# Altium footprint library CCZynq.PcbLib: 36 footprints (part 1 of 3)
Each footprint in its own frame and in the unit in brackets; x right, y up, seen from the top. Pads: shape width x height; smd on the part's side, far side on the other; paste and mask are expansions set on the pad; w line width, h text height; cw(c..) or ccw(c..) is an arc to the next point about the centre after c.
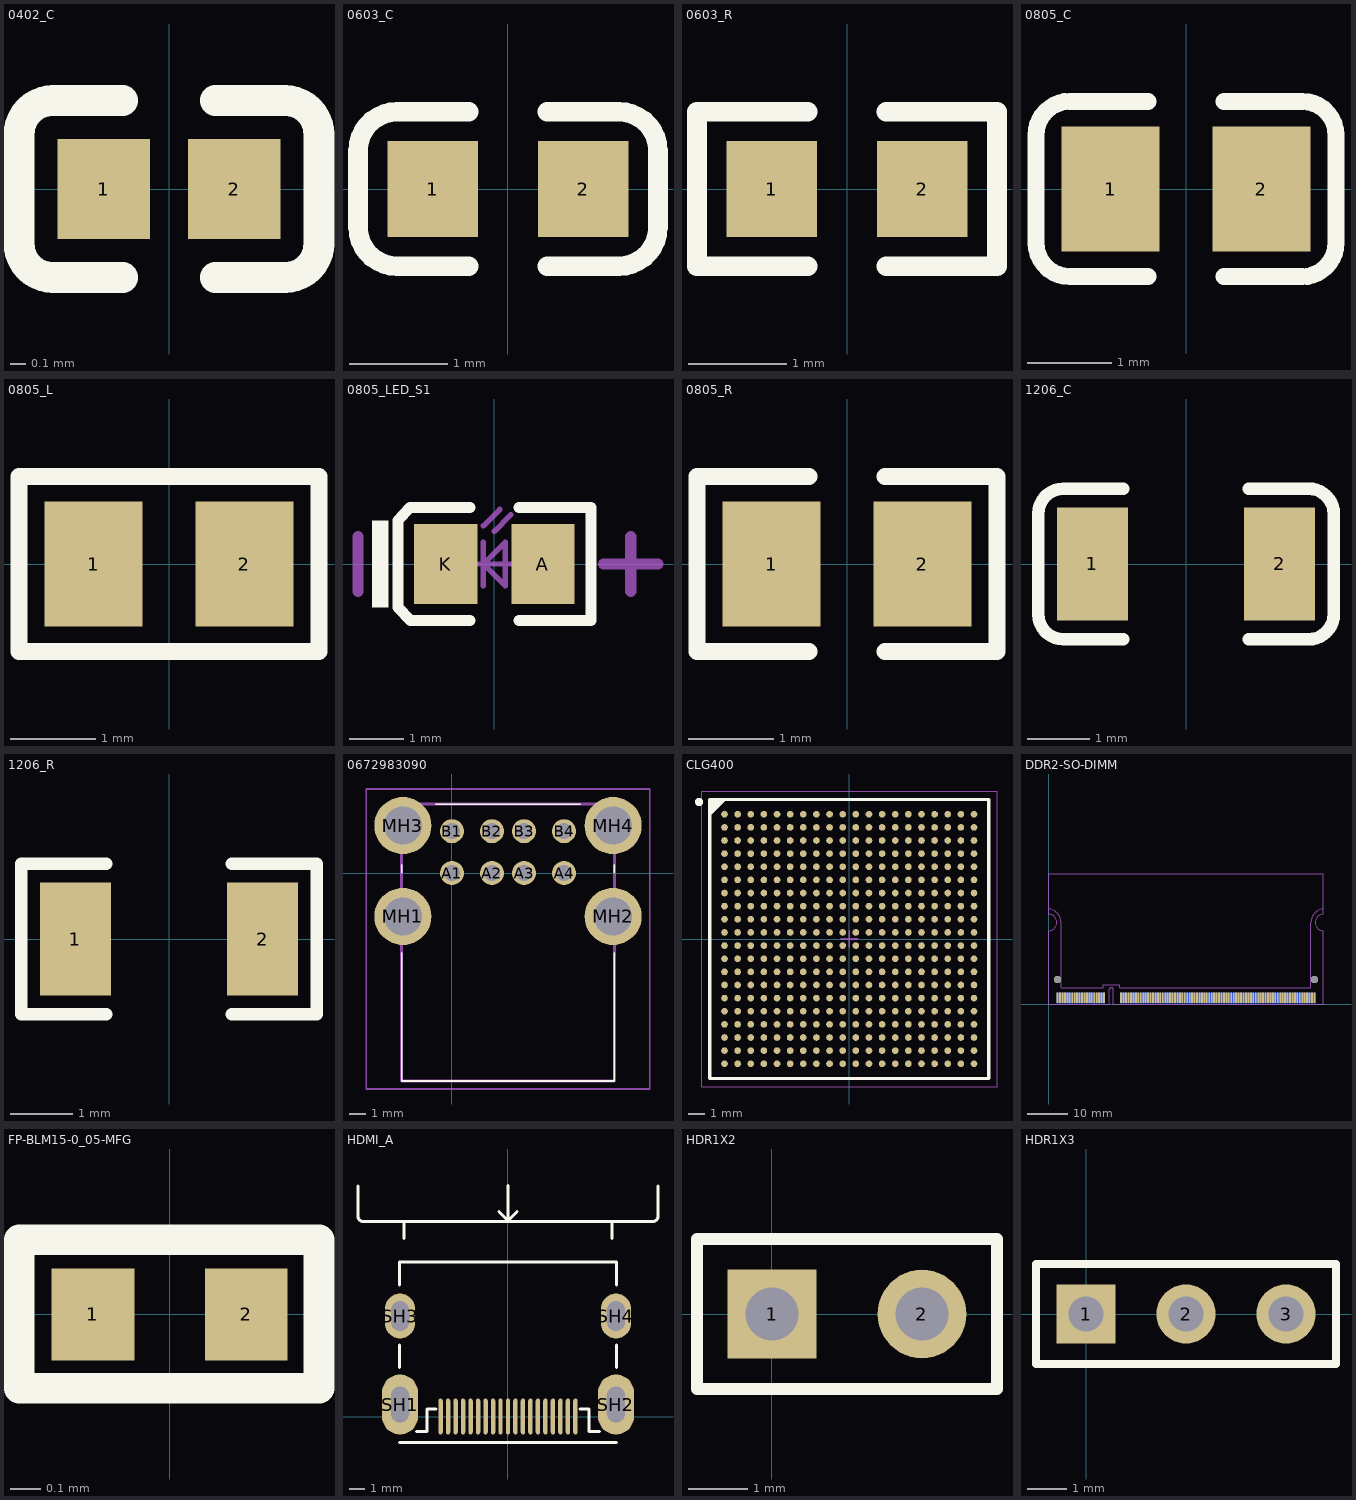
[diagram p0: the footprints below, top view; thin cyan lines are the x and y axes]

## 0402_C [mm]
pads (2):
  rect 0.6x0.65 smd mask+0.051: 1(-0.425,0) 2(0.425,0)
Top Overlay:
  lines w0.2: -0.755,-0.575 cw(c-0.755,-0.355) -0.975,-0.355 -0.975,0.355 cw(c-0.755,0.355) -0.755,0.575 ; -0.75,-0.575 -0.3,-0.575 ; -0.75,0.575 -0.3,0.575 ; 0.3,-0.575 0.75,-0.575 ; 0.3,0.575 0.75,0.575 ; 0.755,-0.575 ccw(c0.755,-0.355) 0.975,-0.355 0.975,0.355 ccw(c0.755,0.355) 0.755,0.575
3D body "0402 SMD Capacitor.step": height 0.2, standoff 0, extent -0.483,-0.3 0.517,0.3

## 0603_C [mm]
pads (2):
  rect 0.93x0.98 smd: 1(-0.77,0) 2(0.77,0)
Top Overlay:
  lines w0.2: -0.4,-0.79 -1.135,-0.79 cw(c-1.135,-0.39) -1.535,-0.39 -1.535,0.39 cw(c-1.135,0.39) -1.135,0.79 -0.4,0.79 ; 0.4,-0.79 1.135,-0.79 ccw(c1.135,-0.39) 1.535,-0.39 1.535,0.39 ccw(c1.135,0.39) 1.135,0.79 0.4,0.79
3D body "User Library-0603 SMD Capacitor.STEP": height 0.3, standoff 0, extent -0.8,-0.4 0.8,0.4

## 0603_R [mm]
pads (2):
  rect 0.93x0.98 smd: 1(-0.77,0) 2(0.77,0)
Top Overlay:
  lines w0.2: -0.4,-0.79 -1.535,-0.79 -1.535,0.79 -0.4,0.79 ; 0.4,-0.79 1.535,-0.79 1.535,0.79 0.4,0.79
3D body "User Library-RES_1609-0603.STEP": height 0.56, standoff 0, extent -0.85,-0.4 0.85,0.4

## 0805_C [mm]
pads (2):
  rect 1.16x1.47 smd: 1(-0.89,0) 2(0.89,0)
Top Overlay:
  lines w0.2: -0.45,-1.035 -1.37,-1.035 cw(c-1.37,-0.635) -1.77,-0.635 -1.77,0.635 cw(c-1.37,0.635) -1.37,1.035 -0.45,1.035 ; 0.45,-1.035 1.37,-1.035 ccw(c1.37,-0.635) 1.77,-0.635 1.77,0.635 ccw(c1.37,0.635) 1.37,1.035 0.45,1.035
3D body "User Library-0805 SMD Capacitor.STEP": height 0.77, standoff -0.01, extent -1,-0.625 1.001,0.625

## 0805_L [mm]
pads (2):
  rect 1.16x1.47 smd: 1(-0.89,0) 2(0.89,0)
Top Overlay:
  lines w0.2: -1.77,-1.035 -1.77,1.035 1.77,1.035 1.77,-1.035 -1.77,-1.035
3D body "L0805.STEP": height 0.6, standoff -0.02, extent -0.997,-0.638 1.003,0.637

## 0805_LED_S1 [mm]
pads (2):
  rect 1.16x1.47 smd: A(0.89,0) K(-0.89,0)
Top Overlay:
  rectangle: -2.245,-0.8 -1.945,0.8
  lines w0.2: -0.45,-1.035 -1.535,-1.035 -1.77,-0.8 -1.77,0.8 -1.55,1.035 -0.45,1.035 ; 0.45,-1.035 1.77,-1.035 1.77,1.035 0.45,1.035
Mechanical 13:
  lines w0.1: -0.4,0 0.4,0 ; -0.2,-0.4 -0.2,0.4 ; -0.2,0.7 0.1,1 ; 0,0.6 0.3,0.9 ; -0.2,0 0.2,0.4 0.2,-0.4 -0.2,0
Mechanical 15:
  lines w0.203: -2.5,-0.5 -2.5,0.5 ; 2,0 3,0 ; 2.5,-0.5 2.5,0.5
3D body "User Library-led_0805.step": height 1.1, standoff 0, extent -1.01,-0.625 1.01,0.625

## 0805_R [mm]
pads (2):
  rect 1.16x1.47 smd: 1(-0.89,0) 2(0.89,0)
Top Overlay:
  lines w0.2: -0.45,-1.035 -1.77,-1.035 -1.77,1.035 -0.45,1.035 ; 0.45,-1.035 1.77,-1.035 1.77,1.035 0.45,1.035
3D body "User Library-R_0805.STEP": height 0.49, standoff -0.01, extent -0.997,-0.625 1.003,0.625

## 1206_C [mm]
pads (2):
  rect 1.13x1.8 smd: 1(-1.49,0) 2(1.49,0)
Top Overlay:
  lines w0.2: -1,-1.2 -1.955,-1.2 cw(c-1.955,-0.8) -2.355,-0.8 -2.355,0.8 cw(c-1.955,0.8) -1.955,1.2 -1,1.2 ; 1,-1.2 1.955,-1.2 ccw(c1.955,-0.8) 2.355,-0.8 2.355,0.8 ccw(c1.955,0.8) 1.955,1.2 1,1.2
3D body "C1206.STEP": height 1, standoff 0, extent -1.602,-0.813 1.598,0.787

## 1206_R [mm]
pads (2):
  rect 1.13x1.8 smd: 1(-1.49,0) 2(1.49,0)
Top Overlay:
  lines w0.2: -1,-1.2 -2.355,-1.2 -2.355,1.2 -1,1.2 ; 1,-1.2 2.355,-1.2 2.355,1.2 1,1.2
3D body "User Library-RES_3216-1206.STEP": height 0.85, standoff 0, extent -1.7,-0.864 1.65,0.866

## 0672983090 [mm]
pads (12):
  round 1.5 hole 1: A1(0,0) A2(2.5,0) A3(4.5,0) A4(7,0) B1(0,2.62) B2(2.5,2.62) B3(4.5,2.62) B4(7,2.62)
  round 3.57 hole 2.38: MH1(-3.07,-2.71) MH2(10.07,-2.71) MH3(-3.07,2.97) MH4(10.07,2.97)
Top Overlay:
  lines w0.1: -3.15,-4.99 -3.15,-12.99 10.15,-12.99 10.15,-4.99 ; -3.15,0.01 -3.15,0.51 ; -1,4.31 8,4.31 ; 10.15,0.01 10.15,0.51
Mechanical 13:
  lines w0.2: -3.15,-12.99 10.15,-12.99 10.15,4.31 -3.15,4.31 -3.15,-12.99
Mechanical 15:
  lines w0.1: -5.355,-13.49 12.355,-13.49 12.355,5.255 -5.355,5.255 -5.355,-13.49
3D body "0672983090.stp": height 15.69, standoff -5, extent -4.151,-12.99 11.16,4.31

## CLG400 [mm]
pads (400):
  round 0.406 smd: A1(-7.6,7.6) A2(-6.8,7.6) A3(-6,7.6) A4(-5.2,7.6) A5(-4.4,7.6) A6(-3.6,7.6) A7(-2.8,7.6) A8(-2,7.6) A9(-1.2,7.6) A10(-0.4,7.6) A11(0.4,7.6) A12(1.2,7.6) A13(2,7.6) A14(2.8,7.6) A15(3.6,7.6) A16(4.4,7.6) A17(5.2,7.6) A18(6,7.6) A19(6.8,7.6) A20(7.6,7.6) B1(-7.6,6.8) B2(-6.8,6.8) B3(-6,6.8) B4(-5.2,6.8) B5(-4.4,6.8) B6(-3.6,6.8) B7(-2.8,6.8) B8(-2,6.8) B9(-1.2,6.8) B10(-0.4,6.8) B11(0.4,6.8) B12(1.2,6.8) B13(2,6.8) B14(2.8,6.8) B15(3.6,6.8) B16(4.4,6.8) B17(5.2,6.8) B18(6,6.8) B19(6.8,6.8) B20(7.6,6.8) C1(-7.6,6) C2(-6.8,6) C3(-6,6) C4(-5.2,6) C5(-4.4,6) C6(-3.6,6) C7(-2.8,6) C8(-2,6) C9(-1.2,6) C10(-0.4,6) C11(0.4,6) C12(1.2,6) C13(2,6) C14(2.8,6) C15(3.6,6) C16(4.4,6) C17(5.2,6) C18(6,6) C19(6.8,6) C20(7.6,6) D1(-7.6,5.2) D2(-6.8,5.2) D3(-6,5.2) D4(-5.2,5.2) D5(-4.4,5.2) D6(-3.6,5.2) D7(-2.8,5.2) D8(-2,5.2) D9(-1.2,5.2) D10(-0.4,5.2) D11(0.4,5.2) D12(1.2,5.2) D13(2,5.2) D14(2.8,5.2) D15(3.6,5.2) D16(4.4,5.2) D17(5.2,5.2) D18(6,5.2) D19(6.8,5.2) D20(7.6,5.2) E1(-7.6,4.4) E2(-6.8,4.4) E3(-6,4.4) E4(-5.2,4.4) E5(-4.4,4.4) E6(-3.6,4.4) E7(-2.8,4.4) E8(-2,4.4) E9(-1.2,4.4) E10(-0.4,4.4) E11(0.4,4.4) E12(1.2,4.4) E13(2,4.4) E14(2.8,4.4) E15(3.6,4.4) E16(4.4,4.4) E17(5.2,4.4) E18(6,4.4) E19(6.8,4.4) E20(7.6,4.4) F1(-7.6,3.6) F2(-6.8,3.6) F3(-6,3.6) F4(-5.2,3.6) F5(-4.4,3.6) F6(-3.6,3.6) F7(-2.8,3.6) F8(-2,3.6) F9(-1.2,3.6) F10(-0.4,3.6) F11(0.4,3.6) F12(1.2,3.6) F13(2,3.6) F14(2.8,3.6) F15(3.6,3.6) F16(4.4,3.6) F17(5.2,3.6) F18(6,3.6) F19(6.8,3.6) F20(7.6,3.6) G1(-7.6,2.8) G2(-6.8,2.8) G3(-6,2.8) G4(-5.2,2.8) G5(-4.4,2.8) G6(-3.6,2.8) G7(-2.8,2.8) G8(-2,2.8) G9(-1.2,2.8) G10(-0.4,2.8) G11(0.4,2.8) G12(1.2,2.8) G13(2,2.8) G14(2.8,2.8) G15(3.6,2.8) G16(4.4,2.8) G17(5.2,2.8) G18(6,2.8) G19(6.8,2.8) G20(7.6,2.8) H1(-7.6,2) H2(-6.8,2) H3(-6,2) H4(-5.2,2) H5(-4.4,2) H6(-3.6,2) H7(-2.8,2) H8(-2,2) H9(-1.2,2) H10(-0.4,2) H11(0.4,2) H12(1.2,2) H13(2,2) H14(2.8,2) H15(3.6,2) H16(4.4,2) H17(5.2,2) H18(6,2) H19(6.8,2) H20(7.6,2) J1(-7.6,1.2) J2(-6.8,1.2) J3(-6,1.2) J4(-5.2,1.2) J5(-4.4,1.2) J6(-3.6,1.2) J7(-2.8,1.2) J8(-2,1.2) J9(-1.2,1.2) J10(-0.4,1.2) J11(0.4,1.2) J12(1.2,1.2) J13(2,1.2) J14(2.8,1.2) J15(3.6,1.2) J16(4.4,1.2) J17(5.2,1.2) J18(6,1.2) J19(6.8,1.2) J20(7.6,1.2) K1(-7.6,0.4) K2(-6.8,0.4) K3(-6,0.4) K4(-5.2,0.4) K5(-4.4,0.4) K6(-3.6,0.4) K7(-2.8,0.4) K8(-2,0.4) K9(-1.2,0.4) K10(-0.4,0.4) K11(0.4,0.4) K12(1.2,0.4) K13(2,0.4) K14(2.8,0.4) K15(3.6,0.4) K16(4.4,0.4) K17(5.2,0.4) K18(6,0.4) K19(6.8,0.4) K20(7.6,0.4) L1(-7.6,-0.4) L2(-6.8,-0.4) L3(-6,-0.4) L4(-5.2,-0.4) L5(-4.4,-0.4) L6(-3.6,-0.4) L7(-2.8,-0.4) L8(-2,-0.4) L9(-1.2,-0.4) L10(-0.4,-0.4) L11(0.4,-0.4) L12(1.2,-0.4) L13(2,-0.4) L14(2.8,-0.4) L15(3.6,-0.4) L16(4.4,-0.4) L17(5.2,-0.4) L18(6,-0.4) L19(6.8,-0.4) L20(7.6,-0.4) M1(-7.6,-1.2) M2(-6.8,-1.2) M3(-6,-1.2) M4(-5.2,-1.2) M5(-4.4,-1.2) M6(-3.6,-1.2) M7(-2.8,-1.2) M8(-2,-1.2) M9(-1.2,-1.2) M10(-0.4,-1.2) M11(0.4,-1.2) M12(1.2,-1.2) M13(2,-1.2) M14(2.8,-1.2) M15(3.6,-1.2) M16(4.4,-1.2) M17(5.2,-1.2) M18(6,-1.2) M19(6.8,-1.2) M20(7.6,-1.2) N1(-7.6,-2) N2(-6.8,-2) N3(-6,-2) N4(-5.2,-2) N5(-4.4,-2) N6(-3.6,-2) N7(-2.8,-2) N8(-2,-2) N9(-1.2,-2) N10(-0.4,-2) N11(0.4,-2) N12(1.2,-2) N13(2,-2) N14(2.8,-2) N15(3.6,-2) N16(4.4,-2) N17(5.2,-2) N18(6,-2) N19(6.8,-2) N20(7.6,-2) P1(-7.6,-2.8) P2(-6.8,-2.8) P3(-6,-2.8) P4(-5.2,-2.8) P5(-4.4,-2.8) P6(-3.6,-2.8) P7(-2.8,-2.8) P8(-2,-2.8) P9(-1.2,-2.8) P10(-0.4,-2.8) P11(0.4,-2.8) P12(1.2,-2.8) P13(2,-2.8) P14(2.8,-2.8) P15(3.6,-2.8) P16(4.4,-2.8) P17(5.2,-2.8) P18(6,-2.8) P19(6.8,-2.8) P20(7.6,-2.8) R1(-7.6,-3.6) R2(-6.8,-3.6) R3(-6,-3.6) R4(-5.2,-3.6) R5(-4.4,-3.6) R6(-3.6,-3.6) R7(-2.8,-3.6) R8(-2,-3.6) R9(-1.2,-3.6) R10(-0.4,-3.6) R11(0.4,-3.6) R12(1.2,-3.6) R13(2,-3.6) R14(2.8,-3.6) R15(3.6,-3.6) R16(4.4,-3.6) R17(5.2,-3.6) R18(6,-3.6) R19(6.8,-3.6) R20(7.6,-3.6) T1(-7.6,-4.4) T2(-6.8,-4.4) T3(-6,-4.4) T4(-5.2,-4.4) T5(-4.4,-4.4) T6(-3.6,-4.4) T7(-2.8,-4.4) T8(-2,-4.4) T9(-1.2,-4.4) T10(-0.4,-4.4) T11(0.4,-4.4) T12(1.2,-4.4) T13(2,-4.4) T14(2.8,-4.4) T15(3.6,-4.4) T16(4.4,-4.4) T17(5.2,-4.4) T18(6,-4.4) T19(6.8,-4.4) T20(7.6,-4.4) U1(-7.6,-5.2) U2(-6.8,-5.2) U3(-6,-5.2) U4(-5.2,-5.2) U5(-4.4,-5.2) U6(-3.6,-5.2) U7(-2.8,-5.2) U8(-2,-5.2) U9(-1.2,-5.2) U10(-0.4,-5.2) U11(0.4,-5.2) U12(1.2,-5.2) U13(2,-5.2) U14(2.8,-5.2) U15(3.6,-5.2) U16(4.4,-5.2) U17(5.2,-5.2) U18(6,-5.2) U19(6.8,-5.2) U20(7.6,-5.2) V1(-7.6,-6) V2(-6.8,-6) V3(-6,-6) V4(-5.2,-6) V5(-4.4,-6) V6(-3.6,-6) V7(-2.8,-6) V8(-2,-6) V9(-1.2,-6) V10(-0.4,-6) V11(0.4,-6) V12(1.2,-6) V13(2,-6) V14(2.8,-6) V15(3.6,-6) V16(4.4,-6) V17(5.2,-6) V18(6,-6) V19(6.8,-6) V20(7.6,-6) W1(-7.6,-6.8) W2(-6.8,-6.8) W3(-6,-6.8) W4(-5.2,-6.8) W5(-4.4,-6.8) W6(-3.6,-6.8) W7(-2.8,-6.8) W8(-2,-6.8) W9(-1.2,-6.8) W10(-0.4,-6.8) W11(0.4,-6.8) W12(1.2,-6.8) W13(2,-6.8) W14(2.8,-6.8) W15(3.6,-6.8) W16(4.4,-6.8) W17(5.2,-6.8) W18(6,-6.8) W19(6.8,-6.8) W20(7.6,-6.8) Y1(-7.6,-7.6) Y2(-6.8,-7.6) Y3(-6,-7.6) Y4(-5.2,-7.6) Y5(-4.4,-7.6) Y6(-3.6,-7.6) Y7(-2.8,-7.6) Y8(-2,-7.6) Y9(-1.2,-7.6) Y10(-0.4,-7.6) Y11(0.4,-7.6) Y12(1.2,-7.6) Y13(2,-7.6) Y14(2.8,-7.6) Y15(3.6,-7.6) Y16(4.4,-7.6) Y17(5.2,-7.6) Y18(6,-7.6) Y19(6.8,-7.6) Y20(7.6,-7.6)
Top Overlay:
  circle w0.25: c-9.15,8.35 r0.125
  region: -7.584,8.5 -8.5,7.584 -8.5,8.5
  lines w0.2: -8.5,7.584 -7.584,8.5 ; -8.5,-8.5 -8.5,8.5 8.5,8.5 8.5,-8.5 -8.5,-8.5
Mechanical 13:
  lines w0.1: -8.5,-8.5 -8.5,8.5 8.5,8.5 8.5,-8.5 -8.5,-8.5
Mechanical 15:
  lines w0.05: -9,-9 -9,9 9,9 9,-9 -9,-9
  lines w0.1: -0.5,0 0.5,0 ; 0,-0.5 0,0.5
3D body: height 1.6, standoff 0.35, extent -8.5,-8.5 8.5,8.5

## DDR2-SO-DIMM [mm]
pads (204):
  rrect20% 0.45x2.55 smd: 1(2.15,1.525) 3(2.75,1.525) 5(3.35,1.525) 7(3.95,1.525) 9(4.55,1.525) 11(5.15,1.525) 13(5.75,1.525) 15(6.35,1.525) 17(6.95,1.525) 19(7.55,1.525) 21(8.15,1.525) 23(8.75,1.525) 25(9.35,1.525) 27(9.95,1.525) 29(10.55,1.525) 31(11.15,1.525) 33(11.75,1.525) 35(12.35,1.525) 37(12.95,1.525) 39(13.55,1.525) 41(17.75,1.525) 41(17.75,1.525) 43(18.35,1.525) 45(18.95,1.525) 47(19.55,1.525) 49(20.15,1.525) 51(20.75,1.525) 53(21.35,1.525) 55(21.95,1.525) 57(22.55,1.525) 59(23.15,1.525) 61(23.75,1.525) 63(24.35,1.525) 65(24.95,1.525) 67(25.55,1.525) 69(26.15,1.525) 71(26.75,1.525) 73(27.35,1.525) 75(27.95,1.525) 77(28.55,1.525) 79(29.15,1.525) 81(29.75,1.525) 83(30.35,1.525) 85(30.95,1.525) 87(31.55,1.525) 89(32.15,1.525) 91(32.75,1.525) 93(33.35,1.525) 95(33.95,1.525) 97(34.55,1.525) 99(35.15,1.525) 101(35.75,1.525) 103(36.35,1.525) 105(36.95,1.525) 107(37.55,1.525) 109(38.15,1.525) 111(38.75,1.525) 113(39.35,1.525) 115(39.95,1.525) 117(40.55,1.525) 119(41.15,1.525) 121(41.75,1.525) 123(42.35,1.525) 125(42.95,1.525) 127(43.55,1.525) 129(44.15,1.525) 131(44.75,1.525) 133(45.35,1.525) 135(45.95,1.525) 137(46.55,1.525) 139(47.15,1.525) 141(47.75,1.525) 143(48.35,1.525) 145(48.95,1.525) 147(49.55,1.525) 149(50.15,1.525) 151(50.75,1.525) 153(51.35,1.525) 155(51.95,1.525) 157(52.55,1.525) 159(53.15,1.525) 161(53.75,1.525) 163(54.35,1.525) 165(54.95,1.525) 167(55.55,1.525) 169(56.15,1.525) 171(56.75,1.525) 173(57.35,1.525) 175(57.95,1.525) 177(58.55,1.525) 179(59.15,1.525) 181(59.75,1.525) 183(60.35,1.525) 185(60.95,1.525) 187(61.55,1.525) 189(62.15,1.525) 191(62.75,1.525) 193(63.35,1.525) 195(63.95,1.525) 197(64.55,1.525) 199(65.15,1.525)
  rrect20% 0.45x2.55 smd far side: 2(2.15,1.525) 4(2.75,1.525) 6(3.35,1.525) 8(3.95,1.525) 10(4.55,1.525) 12(5.15,1.525) 14(5.75,1.525) 16(6.35,1.525) 18(6.95,1.525) 20(7.55,1.525) 22(8.15,1.525) 24(8.75,1.525) 26(9.35,1.525) 28(9.95,1.525) 30(10.55,1.525) 32(11.15,1.525) 34(11.75,1.525) 36(12.35,1.525) 38(12.95,1.525) 40(13.55,1.525) 42(17.75,1.525) 42(17.75,1.525) 44(18.35,1.525) 46(18.95,1.525) 48(19.55,1.525) 50(20.15,1.525) 52(20.75,1.525) 54(21.35,1.525) 56(21.95,1.525) 58(22.55,1.525) 60(23.15,1.525) 62(23.75,1.525) 64(24.35,1.525) 66(24.95,1.525) 68(25.55,1.525) 70(26.15,1.525) 72(26.75,1.525) 74(27.35,1.525) 76(27.95,1.525) 78(28.55,1.525) 80(29.15,1.525) 82(29.75,1.525) 84(30.35,1.525) 86(30.95,1.525) 88(31.55,1.525) 90(32.15,1.525) 92(32.75,1.525) 94(33.35,1.525) 96(33.95,1.525) 98(34.55,1.525) 100(35.15,1.525) 102(35.75,1.525) 104(36.35,1.525) 106(36.95,1.525) 108(37.55,1.525) 110(38.15,1.525) 112(38.75,1.525) 114(39.35,1.525) 116(39.95,1.525) 118(40.55,1.525) 120(41.15,1.525) 122(41.75,1.525) 124(42.35,1.525) 126(42.95,1.525) 128(43.55,1.525) 130(44.15,1.525) 132(44.75,1.525) 134(45.35,1.525) 136(45.95,1.525) 138(46.55,1.525) 140(47.15,1.525) 142(47.75,1.525) 144(48.35,1.525) 146(48.95,1.525) 148(49.55,1.525) 150(50.15,1.525) 152(50.75,1.525) 154(51.35,1.525) 156(51.95,1.525) 158(52.55,1.525) 160(53.15,1.525) 162(53.75,1.525) 164(54.35,1.525) 166(54.95,1.525) 168(55.55,1.525) 170(56.15,1.525) 172(56.75,1.525) 174(57.35,1.525) 176(57.95,1.525) 178(58.55,1.525) 180(59.15,1.525) 182(59.75,1.525) 184(60.35,1.525) 186(60.95,1.525) 188(61.55,1.525) 190(62.15,1.525) 192(62.75,1.525) 194(63.35,1.525) 196(63.95,1.525) 198(64.55,1.525) 200(65.15,1.525)
  round 1.8 hole 1.8 unplated: NC(2.15,6) NC(65.154,6)
Mechanical 1:
  lines w0.1: -0.009,23.242 cw(c-0.009,20.483) 1.942,22.434 2.098,22.278 cw(c-0.07,20.11) 2.996,20.11 2.996,4.446 2.996,4 12.7,4 13.346,4 13.346,4.748 17.346,4.748 17.346,4 17.907,4 53.085,4 ; -0.004,4.446 -0.004,0 ; 14.85,0 2.15,0 0,0 -0.004,0 ; 14.85,0.001 14.85,3.5 cw(c15.35,3.5) 15.85,3.5 15.85,0.001 65.15,0.001 ; 52.45,4 64.304,4 64.304,4.446 64.304,20.11 cw(c67.37,20.11) 65.202,22.278 65.358,22.434 cw(c67.309,20.483) 67.309,23.242 ; 65.15,0 67.3,0 ; 67.304,0 67.304,18 cw(c67.304,20) 67.304,22 67.3,22 67.3,31.9 0,31.9 0,22 -0.004,22 cw(c-0.004,20) -0.004,18 -0.004,0
  text "1" at 1.905,-2.54 h1.52

## FP-BLM15-0_05-MFG [mm]
pads (2):
  rect 0.27x0.3 smd mask+0.05: 1(-0.25,0) 2(0.25,0)
Top Overlay:
  lines w0.1: -0.491,-0.241 -0.491,0.244 0.488,0.244 0.488,-0.241 -0.491,-0.241
Top Assembly:
  text ".Designator" at -2.251,-0.226 h1
3D body "GRM033R71C131JA01J.STEP": height 0.31, standoff 0.01, extent -0.311,-0.172 0.289,0.158

## HDMI_A [mm]
pads (23):
  oval 0.3x2.4 smd mask+0.025: 1(-4.5,0) 2(-4,0) 3(-3.5,0) 4(-3,0) 5(-2.5,0) 6(-2,0) 7(-1.5,0) 8(-1,0) 9(-0.5,0) 10(0,0) 11(0.5,0) 12(1,0) 13(1.5,0) 14(2,0) 15(2.5,0) 16(3,0) 17(3.5,0) 18(4,0) 19(4.5,0)
  oval 2.4x4 hole 1.2 slot 2.4 at 90 deg: SH1(-7.2,0.8) SH2(7.2,0.8)
  oval 2x3 hole 1.2 slot 2 at 90 deg: SH3(-7.2,6.7) SH4(7.2,6.7)
Top Overlay:
  lines w0.2: -10,13.31 -10,15.36 ; -10,13.36 ccw(c-9.675,13.335) -9.7,13.01 9.7,13.01 ccw(c9.675,13.335) 10,13.36 10,15.36 ; -7.25,-1.74 7.25,-1.74 ; -7.25,3.26 -7.25,4.76 ; -7.25,8.76 -7.25,10.26 ; -7.25,10.31 7.2,10.31 7.25,10.26 7.25,8.76 ; -6.95,11.86 -6.95,13.01 ; -6.1,-1 -5.4,-1 -5.4,0.5 -4.8,0.5 ; -0.6,13.66 0,13.06 ; 0,15.41 0,13.06 ; 0.6,13.66 0,13.06 ; 4.8,0.5 5.4,0.5 5.4,-1 6.1,-1 ; 6.95,11.86 6.95,13.01 ; 7.25,3.26 7.25,4.76
Mechanical 29:
  text ".Designator" at -4.1,6.46 h1.02
3D body "685119134923.stp": height 6.17, standoff -2.21, extent -7.5,-0.75 7.5,11.4

## HDR1X2 [mm]
pads (2):
  rect 1.5x1.5 hole 0.9: 1(0,0)
  round 1.5 hole 0.9: 2(2.54,0)
Top Overlay:
  lines w0.2: -1.27,-1.27 3.81,-1.27 3.81,1.27 -1.27,1.27 -1.27,-1.27

## HDR1X3 [mm]
pads (3):
  rect 1.5x1.5 hole 0.9: 1(0,0)
  round 1.5 hole 0.9: 2(2.54,0) 3(5.08,0)
Top Overlay:
  lines w0.2: -1.27,-1.27 -1.27,1.27 6.35,1.27 6.35,-1.27 -1.27,-1.27